# Altium schematic symbol library switch.SchLib: 1 symbol
Pins are listed as number, name and electrical type; pins without a type are passive.

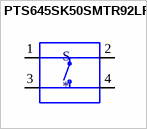
[diagram p0: symbol PTS645SK50SMTR92LFS]

## PTS645SK50SMTR92LFS
designator S
Tactile Switch SPST-NO Top Actuated Surface Mount; MF: C&K; MP: PTS645SK50SMTR92LFS; Price: None; SnapEDA_Link: https://www.snapeda.com/parts/PTS645SK50SMTR92LFS/C%26K/view-part/226517/?ref=snap; Value: *; Availability: Unavailable; Package: None
footprint SW_PTS645SK50SMTR92LFS
pins: 1, 2, 3, 4